# Altium schematic symbol library SnapEDAsch.SchLib: 1 symbol
Pins are listed as number, name and electrical type; pins without a type are passive.

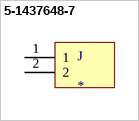
[diagram p0: symbol 5-1437648-7]

## 5-1437648-7
designator J
Connector Barrier Strip 2 Position 8.26mm Screw Straight Cable Mount 25 Amp Contact; MP: 5-1437648-7; MF: TE Connectivity; Availability: Unavailable; SnapEDA_Link: https://www.snapeda.com/parts/5-1437648-7/TE%20Connectivity%20AMP%20Connectors/view-part/2624425/?ref=snap; Package: None; Price: None; Value: *
footprint TE_5-1437648-7
pins: 1, 2